# Altium footprint library SMD-IC  0607.PcbLib: 125 footprints (part 6 of 8)
Each footprint in its own frame and in the unit in brackets; x right, y up, seen from the top. Pads: shape width x height; smd on the part's side, far side on the other; paste and mask are expansions set on the pad; w line width, h text height; cw(c..) or ccw(c..) is an arc to the next point about the centre after c.
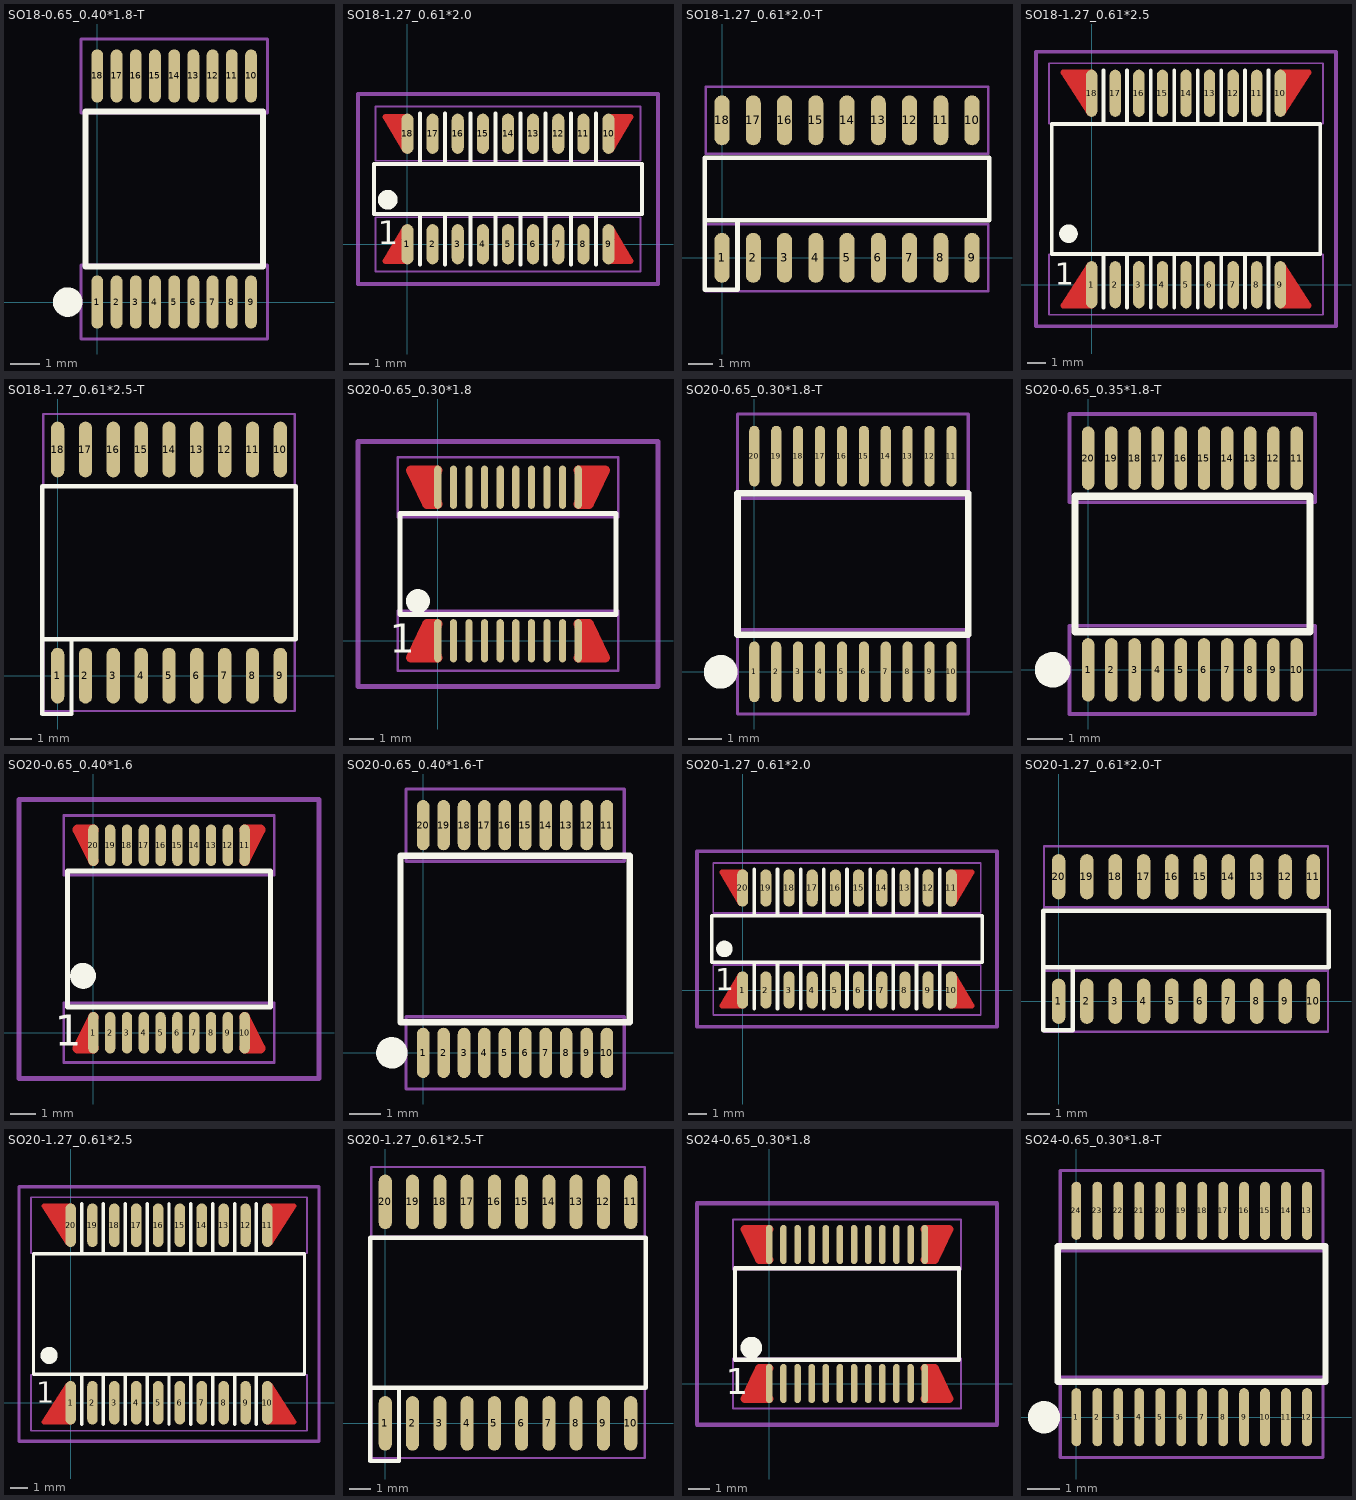
[diagram p5: the footprints below, top view; thin cyan lines are the x and y axes]

## SO18-0.65_0.40*1.8-T [mm]
pads (18):
  oval 0.4x1.8 smd: 1(0,0) 2(0.65,0) 3(1.3,0) 4(1.95,0) 5(2.6,0) 6(3.25,0) 7(3.9,0) 8(4.55,0) 9(5.2,0) 10(5.2,7.65) 11(4.55,7.65) 12(3.9,7.65) 13(3.25,7.65) 14(2.6,7.65) 15(1.95,7.65) 16(1.3,7.65) 17(0.65,7.65) 18(0,7.65)
Top Overlay:
  circle w0.5: c-1,0 r0.25
  lines w0.2: -0.4,1.2 -0.4,6.45 5.6,6.45 5.6,1.2 -0.4,1.2
Mechanical 15:
  lines w0.1: -0.55,-1.25 5.75,-1.25 5.75,1.25 -0.55,1.25 -0.55,-1.25 ; -0.55,6.4 -0.55,8.9 5.75,8.9 5.75,6.4 -0.55,6.4

## SO18-1.27_0.61*2.0 [mil]
pads (18):
  oval 24x80 smd: 1(0,0) 2(50,0) 3(100,0) 4(150,0) 5(200,0) 6(250,0) 7(300,0) 8(350,0) 9(400,0) 10(400,220) 11(350,220) 12(300,220) 13(250,220) 14(200,220) 15(150,220) 16(100,220) 17(50,220) 18(0,220)
Top Layer:
  lines w12: -4.33,32.48 -43.7,-33.66 0,-33.66 ; -4.33,187.52 -43.7,253.66 0,253.66 ; 400,-33.66 443.7,-33.66 404.33,32.48 ; 400,253.66 443.7,253.66 404.33,187.52
  lines w24: -23.62,-23.62 -11.81,-3.94 ; -23.62,243.62 -11.81,223.94 ; 411.81,-3.94 423.62,-23.62 ; 411.81,223.94 423.62,243.62
Top Overlay:
  circle w19.68: c-39.37,88.58 r9.84
  lines w7.87: 25,-40.35 25,60 ; 25,160 25,260.35 ; 75,-40.35 75,60 ; 75,160 75,260.35 ; 125,-40.35 125,60 ; 125,160 125,260.35 ; 175,-40.35 175,60 ; 175,160 175,260.35 ; 225,-40.35 225,60 ; 225,160 225,260.35 ; 275,-40.35 275,60 ; 275,160 275,260.35 ; 325,-40.35 325,60 ; 325,160 325,260.35 ; 375,-40.35 375,60 ; 375,160 375,260.35 ; -66.93,60 466.93,60 466.93,160 -66.93,160 -66.93,60
  text "1" at -59.06,0 h47.24
Top Solder:
  lines w12: -4.33,32.48 -43.7,-33.66 0,-33.66 ; -4.33,187.52 -43.7,253.66 0,253.66 ; 400,-33.66 443.7,-33.66 404.33,32.48 ; 400,253.66 443.7,253.66 404.33,187.52
  lines w24: -23.62,-23.62 -11.81,-3.94 ; -23.62,243.62 -11.81,223.94 ; 411.81,-3.94 423.62,-23.62 ; 411.81,223.94 423.62,243.62
Mechanical 8:
  lines w7.87: -98.43,-78.98 -98.43,298.98 498.43,298.98 498.43,-78.98 -95.63,-78.98
Mechanical 16:
  lines w3.94: -63.48,-53.78 -63.48,53.78 463.48,53.78 463.48,-53.78 -63.48,-53.78 ; -63.48,166.22 463.48,166.22 463.48,273.78 -63.48,273.78 -63.48,166.22

## SO18-1.27_0.61*2.0-T [mil]
pads (18):
  oval 24x80 smd: 1(0,0) 2(50,0) 3(100,0) 4(150,0) 5(200,0) 6(250,0) 7(300,0) 8(350,0) 9(400,0) 10(400,220) 11(350,220) 12(300,220) 13(250,220) 14(200,220) 15(150,220) 16(100,220) 17(50,220) 18(0,220)
Top Overlay:
  lines w7.87: -27.56,60 427.56,60 427.56,160 -27.56,160 -27.56,-51.18 25,-51.18 25,60
Mechanical 15:
  lines w3.94: -25.78,-53.78 -25.78,53.82 425.78,53.78 425.78,-53.78 -25.78,-53.78 ; -25.78,166.22 425.78,166.22 425.78,273.82 -25.78,273.78 -25.78,166.22

## SO18-1.27_0.61*2.5 [mil]
pads (18):
  oval 24x100 smd: 1(0,0) 2(50,0) 3(100,0) 4(150,0) 5(200,0) 6(250,0) 7(300,0) 8(350,0) 9(400,0) 10(400,406) 11(350,406) 12(300,406) 13(250,406) 14(200,406) 15(150,406) 16(100,406) 17(50,406) 18(0,406)
Top Layer:
  lines w12: -4.92,41.34 -60.24,-44.09 0,-44.09 ; -4.92,364.66 -60.24,450.09 0,450.09 ; 400,-44.09 460.24,-44.09 404.92,41.34 ; 400,450.09 460.24,450.09 404.92,364.66
  lines w24: -41.34,-37.4 -9.84,9.84 ; -41.34,443.4 -9.84,396.16 ; -21.65,-35.43 -12.8,-24.61 ; -21.65,441.43 -12.8,430.61 ; 409.84,9.84 441.34,-37.4 ; 409.84,396.16 441.34,443.4 ; 412.8,-24.61 421.65,-35.43 ; 412.8,430.61 421.65,441.43
Top Overlay:
  circle w19.68: c-49.21,108.27 r9.84
  lines w7.87: 25,-48.97 25,65.2 ; 25,340.8 25,454.97 ; 75,-48.97 75,65.2 ; 75,340.8 75,454.97 ; 125,-48.97 125,65.2 ; 125,340.8 125,454.97 ; 175,-48.97 175,65.2 ; 175,340.8 175,454.97 ; 225,-48.97 225,65.2 ; 225,340.8 225,454.97 ; 275,-48.97 275,65.2 ; 275,340.8 275,454.97 ; 325,-48.97 325,65.2 ; 325,340.8 325,454.97 ; 375,-48.97 375,65.2 ; 375,340.8 375,454.97 ; -85,65.2 -85,340.8 485,340.8 485,65.2 -85,65.2
  text "1" at -78.74,0 h47.24
Top Solder:
  lines w12: -4.92,41.34 -60.24,-44.09 0,-44.09 ; -4.92,364.66 -60.24,450.09 0,450.09 ; 400,-44.09 460.24,-44.09 404.92,41.34 ; 400,450.09 460.24,450.09 404.92,364.66
  lines w24: -41.34,-37.4 -9.84,9.84 ; -41.34,443.4 -9.84,396.16 ; -21.65,-35.43 -12.79,-24.61 ; -21.65,441.43 -12.79,430.61 ; 409.84,9.84 441.34,-37.4 ; 409.84,396.16 441.34,443.4 ; 412.8,-24.61 421.65,-35.43 ; 412.8,430.61 421.65,441.43
Mechanical 8:
  lines w7.87: -118.11,-88.34 518.11,-88.34 518.11,494.34 -118.11,494.34 -118.11,-88.34
Mechanical 16:
  lines w3.94: -90.65,-63.78 -90.65,63.78 490.65,63.78 490.65,-63.78 -90.65,-63.78 ; -90.65,342.22 490.65,342.22 490.65,469.78 -90.65,469.78 -90.65,342.22

## SO18-1.27_0.61*2.5-T [mil]
pads (18):
  oval 24x100 smd: 1(0,0) 2(50,0) 3(100,0) 4(150,0) 5(200,0) 6(250,0) 7(300,0) 8(350,0) 9(400,0) 10(400,406) 11(350,406) 12(300,406) 13(250,406) 14(200,406) 15(150,406) 16(100,406) 17(50,406) 18(0,406)
Top Overlay:
  lines w7.87: -27.56,65 427.56,65 427.56,340 -27.56,340 -27.56,-68.9 25,-68.9 25,65
Mechanical 15:
  lines w3.94: -25.78,-63.78 425.78,-63.78 425.78,63.78 -25.78,63.78 -25.78,-63.78 ; -25.78,342.22 -25.78,469.78 425.78,469.78 425.78,342.22 -25.78,342.22

## SO20-0.65_0.30*1.8 [mm]
height 1.1
pads (20):
  oval 0.3x1.8 smd: 1(0,0) 2(0.65,0) 3(1.3,0) 4(1.95,0) 5(2.6,0) 6(3.25,0) 7(3.9,0) 8(4.55,0) 9(5.2,0) 10(5.85,0) 11(5.85,6.4) 12(5.2,6.4) 13(4.55,6.4) 14(3.9,6.4) 15(3.25,6.4) 16(2.6,6.4) 17(1.95,6.4) 18(1.3,6.4) 19(0.65,6.4) 20(0,6.4)
Top Layer:
  lines w0.4: -0.7,6.225 -0.7,7.1 ; -0.325,-0.7 -0.325,0.7 ; -0.325,5.7 -0.325,7.1 ; 0,-0.7 -1.125,-0.7 -0.45,0.7 0,0.7 ; 0,5.7 -0.45,5.7 -1.125,7.1 0,7.1 ; 5.85,-0.7 6.975,-0.7 6.3,0.7 5.85,0.7 ; 5.85,5.7 6.3,5.7 6.975,7.1 5.85,7.1 ; 6.175,-0.7 6.175,0.7 ; 6.175,5.7 6.175,7.1 ; 6.55,-0.7 6.55,0.175 ; 6.55,6.225 6.55,7.1 ; -0.7,-0.7 -0.7,0.175 -0.7,-0.7
Top Overlay:
  circle w0.5: c-0.825,1.65 r0.25
  lines w0.2: -1.575,1.1 -1.575,5.3 7.425,5.3 7.425,1.1 -1.575,1.1
  text "1" at -2,-0.5 h1.2
Top Solder:
  lines w0.4: 0,-0.7 -1.125,-0.7 -0.45,0.7 0,0.7 ; 0,5.7 -0.45,5.7 -1.125,7.1 0,7.1 ; 5.85,-0.7 6.975,-0.7 6.3,0.7 5.85,0.7 ; 5.85,5.7 6.3,5.7 6.975,7.1 5.85,7.1
  lines w0.8: -0.425,-0.4 -0.425,0.3 ; -0.425,6.1 -0.425,6.8 ; 6.275,-0.4 6.275,0.3 ; 6.275,6.1 6.275,6.8
Mechanical 8:
  lines w0.2: -3.325,-1.9 9.175,-1.9 9.175,8.3 -3.325,8.3 -3.325,-1.9
Mechanical 16:
  lines w0.1: -1.675,-1.25 -1.675,1.25 7.525,1.25 7.525,-1.25 -1.675,-1.25 ; -1.675,5.15 7.525,5.15 7.525,7.65 -1.675,7.65 -1.675,5.15

## SO20-0.65_0.30*1.8-T [mm]
height 1.1
pads (20):
  oval 0.3x1.8 smd: 1(0,0) 2(0.65,0) 3(1.3,0) 4(1.95,0) 5(2.6,0) 6(3.25,0) 7(3.9,0) 8(4.55,0) 9(5.2,0) 10(5.85,0) 11(5.85,6.4) 12(5.2,6.4) 13(4.55,6.4) 14(3.9,6.4) 15(3.25,6.4) 16(2.6,6.4) 17(1.95,6.4) 18(1.3,6.4) 19(0.65,6.4) 20(0,6.4)
Top Overlay:
  circle w0.5: c-1,0 r0.25
  lines w0.2: -0.5,1.1 6.35,1.1 6.35,5.3 -0.5,5.3 -0.5,1.1
Mechanical 15:
  lines w0.1: -0.5,-1.25 6.35,-1.25 6.35,1.25 -0.5,1.25 -0.5,-1.25 ; -0.5,5.15 6.35,5.15 6.35,7.65 -0.5,7.65 -0.5,5.15

## SO20-0.65_0.35*1.8-T [mm]
height 1.1
pads (20):
  oval 0.35x1.78 smd: 1(0,0) 2(0.65,0) 3(1.3,0) 4(1.95,0) 5(2.6,0) 6(3.25,0) 7(3.9,0) 8(4.55,0) 9(5.2,0) 10(5.85,0) 11(5.85,5.94) 12(5.2,5.94) 13(4.55,5.94) 14(3.9,5.94) 15(3.25,5.94) 16(2.6,5.94) 17(1.95,5.94) 18(1.3,5.94) 19(0.65,5.94) 20(0,5.94)
Top Overlay:
  circle w0.5: c-1,0 r0.25
  lines w0.2: -0.375,1.07 6.225,1.07 6.225,4.87 -0.375,4.87 -0.375,1.07
Mechanical 15:
  lines w0.1: -0.525,-1.24 -0.525,1.24 6.375,1.24 6.375,-1.24 -0.525,-1.24 ; -0.525,4.7 6.375,4.7 6.375,7.18 -0.525,7.18 -0.525,4.7

## SO20-0.65_0.40*1.6 [mm]
height 1.85
pads (20):
  oval 0.4x1.6 smd: 1(0,0) 2(0.65,0) 3(1.3,0) 4(1.95,0) 5(2.6,0) 6(3.25,0) 7(3.9,0) 8(4.55,0) 9(5.2,0) 10(5.85,0) 11(5.85,7.25) 12(5.2,7.25) 13(4.55,7.25) 14(3.9,7.25) 15(3.25,7.25) 16(2.6,7.25) 17(1.95,7.25) 18(1.3,7.25) 19(0.65,7.25) 20(0,7.25)
Top Layer:
  lines w0.4: -0.3,-0.6 0,0.6 -0.6,-0.6 0,-0.6 ; -0.3,7.85 0,6.65 -0.6,7.85 0,7.85 ; 5.85,-0.6 6.45,-0.6 5.85,0.6 6.15,-0.6 ; 5.85,7.85 6.45,7.85 5.85,6.65 6.15,7.85
Top Overlay:
  circle w0.5: c-0.4,2.2 r0.25
  lines w0.2: -1,1 6.85,1 6.85,6.25 -1,6.25 -1,1
  text "1" at -1.5,-0.5 h1.2
Top Solder:
  lines w0.3: -0.3,-0.6 0,0.6 -0.6,-0.6 0,-0.6 ; -0.3,7.85 0,6.65 -0.6,7.85 0,7.85 ; 5.85,-0.6 6.45,-0.6 5.85,0.6 6.15,-0.6 ; 5.85,7.85 6.45,7.85 5.85,6.65 6.15,7.85
Mechanical 8:
  lines w0.2: -2.875,-1.775 -2.875,9.025 8.725,9.025 8.725,-1.775 -2.875,-1.775
Mechanical 16:
  lines w0.1: -1.15,-1.15 7,-1.15 7,1.15 -1.15,1.15 -1.15,-1.15 ; -1.15,6.1 -1.15,8.4 7,8.4 7,6.1 -1.15,6.1

## SO20-0.65_0.40*1.6-T [mm]
height 1.85
pads (20):
  oval 0.4x1.6 smd: 1(0,0) 2(0.65,0) 3(1.3,0) 4(1.95,0) 5(2.6,0) 6(3.25,0) 7(3.9,0) 8(4.55,0) 9(5.2,0) 10(5.85,0) 11(5.85,7.25) 12(5.2,7.25) 13(4.55,7.25) 14(3.9,7.25) 15(3.25,7.25) 16(2.6,7.25) 17(1.95,7.25) 18(1.3,7.25) 19(0.65,7.25) 20(0,7.25)
Top Overlay:
  circle w0.5: c-1,0 r0.25
  lines w0.2: -0.725,0.975 6.575,0.975 6.575,6.275 -0.725,6.275 -0.725,0.975
Mechanical 15:
  lines w0.1: -0.55,-1.15 6.4,-1.15 6.4,1.15 -0.55,1.15 -0.55,-1.15 ; -0.55,6.1 -0.55,8.4 6.4,8.4 6.4,6.1 -0.55,6.1

## SO20-1.27_0.61*2.0 [mil]
pads (20):
  oval 24x80 smd: 1(0,0) 2(50,0) 3(100,0) 4(150,0) 5(200,0) 6(250,0) 7(300,0) 8(350,0) 9(400,0) 10(450,0) 11(450,220) 12(400,220) 13(350,220) 14(300,220) 15(250,220) 16(200,220) 17(150,220) 18(100,220) 19(50,220) 20(0,220)
Top Layer:
  lines w12: -4.33,32.48 -43.7,-33.66 0,-33.66 ; -4.33,187.52 -43.7,253.66 0,253.66 ; 450,-33.66 493.7,-33.66 454.33,32.48 ; 450,253.66 493.7,253.66 454.33,187.52
  lines w24: -23.62,-23.62 -11.81,-3.94 ; -23.62,243.62 -11.81,223.94 ; 461.81,-3.94 473.62,-23.62 ; 461.81,223.94 473.62,243.62
Top Overlay:
  circle w19.68: c-39.37,88.58 r7.87
  lines w7.87: 25,-40.35 25,60 ; 25,160 25,260.35 ; 75,-40.35 75,60 ; 75,160 75,260.35 ; 125,-40.35 125,60 ; 125,160 125,260.35 ; 175,-40.35 175,60 ; 175,160 175,260.35 ; 225,-40.35 225,60 ; 225,160 225,260.35 ; 275,-40.35 275,60 ; 275,160 275,260.35 ; 325,-40.35 325,60 ; 325,160 325,260.35 ; 375,-40.35 375,60 ; 375,160 375,260.35 ; 425,-40.35 425,60 ; 425,160 425,260.35 ; -66.93,60 -66.93,160 516.93,160 516.93,60 -66.93,60
  text "1" at -59.06,0 h47.24
Top Solder:
  lines w12: -4.33,32.48 -43.7,-33.66 0,-33.66 ; -4.33,187.52 -43.7,253.66 0,253.66 ; 450,-33.66 493.7,-33.66 454.33,32.48 ; 450,253.66 493.7,253.66 454.33,187.52
  lines w24: -23.62,-23.62 -11.81,-3.94 ; -23.62,243.62 -11.81,223.94 ; 461.81,-3.94 473.62,-23.62 ; 461.81,223.94 473.62,243.62
Mechanical 8:
  lines w7.87: -98.43,-78.98 -98.43,298.98 548.43,298.98 548.43,-78.98 -98.43,-78.98
Mechanical 16:
  lines w3.94: -63.48,-53.78 513.48,-53.78 513.48,53.78 -63.48,53.78 -63.48,-53.78 ; -63.48,166.22 -63.48,273.78 513.48,273.78 513.48,166.22 -63.48,166.22

## SO20-1.27_0.61*2.0-T [mil]
pads (20):
  oval 24x80 smd: 1(0,0) 2(50,0) 3(100,0) 4(150,0) 5(200,0) 6(250,0) 7(300,0) 8(350,0) 9(400,0) 10(450,0) 11(450,220) 12(400,220) 13(350,220) 14(300,220) 15(250,220) 16(200,220) 17(150,220) 18(100,220) 19(50,220) 20(0,220)
Top Overlay:
  lines w7.87: -27.56,60 477.56,60 477.56,160 -27.56,160 -27.56,-51.18 25,-51.18 25,60
Mechanical 15:
  lines w3.94: -25.78,-53.78 475.78,-53.78 475.78,53.82 -25.78,53.78 -25.78,-53.78 ; -25.78,166.22 -25.78,273.82 475.78,273.78 475.78,166.22 -25.78,166.22

## SO20-1.27_0.61*2.5 [mil]
pads (20):
  oval 24x100 smd: 1(0,0) 2(50,0) 3(100,0) 4(150,0) 5(200,0) 6(250,0) 7(300,0) 8(350,0) 9(400,0) 10(450,0) 11(450,406) 12(400,406) 13(350,406) 14(300,406) 15(250,406) 16(200,406) 17(150,406) 18(100,406) 19(50,406) 20(0,406)
Top Layer:
  lines w12: -4.92,41.34 -60.24,-44.09 0,-44.09 ; -4.92,364.66 -60.24,450.09 0,450.09 ; 450,-44.09 510.24,-44.09 454.92,41.34 ; 450,450.09 510.24,450.09 454.92,364.66
  lines w24: -41.34,-37.4 -9.84,9.84 ; -41.34,443.4 -9.84,396.16 ; -21.65,-35.43 -12.8,-24.61 ; -21.65,441.43 -12.8,430.61 ; 459.84,9.84 491.34,-37.4 ; 459.84,396.16 491.34,443.4 ; 462.8,-24.61 471.65,-35.43 ; 462.8,430.61 471.65,441.43
Top Overlay:
  circle w19.68: c-49.21,108.27 r9.84
  lines w7.87: 25,-48.97 25,65.2 ; 25,340.8 25,454.97 ; 75,-48.97 75,65.2 ; 75,340.8 75,454.97 ; 125,-48.97 125,65.2 ; 125,340.8 125,454.97 ; 175,-48.97 175,65.2 ; 175,340.8 175,454.97 ; 225,-48.97 225,65.2 ; 225,340.8 225,454.97 ; 275,-48.97 275,65.2 ; 275,340.8 275,454.97 ; 325,-48.97 325,65.2 ; 325,340.8 325,454.97 ; 375,-48.97 375,65.2 ; 375,340.8 375,454.97 ; 425,-48.97 425,65.2 ; 425,340.8 425,454.97 ; -85,65.2 535,65.2 535,340.8 -85,340.8 -85,65.2
  text "1" at -78.74,0 h47.24
Top Solder:
  lines w12: -4.92,41.34 -60.24,-44.09 0,-44.09 ; -4.92,364.66 -60.24,450.09 0,450.09 ; 450,-44.09 510.24,-44.09 454.92,41.34 ; 450,450.09 510.24,450.09 454.92,364.66
  lines w24: -41.34,-37.4 -9.84,9.84 ; -41.34,443.4 -9.84,396.16 ; -21.65,-35.43 -12.79,-24.61 ; -21.65,441.43 -12.79,430.61 ; 459.84,9.84 491.34,-37.4 ; 459.84,396.16 491.34,443.4 ; 462.8,-24.61 471.65,-35.43 ; 462.8,430.61 471.65,441.43
Mechanical 8:
  lines w7.87: 566.18,-88.34 -118.11,-88.34 -118.11,494.34 566.18,494.34 ; 568.11,-88.34 568.11,494.34
Mechanical 16:
  lines w3.94: -90.65,-63.78 -90.65,63.78 540.65,63.78 540.65,-63.78 -90.65,-63.78 ; -90.65,342.22 540.65,342.22 540.65,469.78 -90.65,469.78 -90.65,342.22

## SO20-1.27_0.61*2.5-T [mil]
pads (20):
  oval 24x100 smd: 1(0,0) 2(50,0) 3(100,0) 4(150,0) 5(200,0) 6(250,0) 7(300,0) 8(350,0) 9(400,0) 10(450,0) 11(450,406) 12(400,406) 13(350,406) 14(300,406) 15(250,406) 16(200,406) 17(150,406) 18(100,406) 19(50,406) 20(0,406)
Top Overlay:
  lines w7.87: -27.56,65 477.56,65 477.56,340 -27.56,340 -27.56,-68.9 25,-68.9 25,65
Mechanical 15:
  lines w3.94: -25.78,-63.78 475.78,-63.78 475.78,63.78 -25.78,63.78 -25.78,-63.78 ; -25.78,342.22 -25.78,469.78 475.78,469.78 475.78,342.22 -25.78,342.22

## SO24-0.65_0.30*1.8 [mm]
pads (25):
  oval 0.3x1.8 smd: 1(0,0) 1(0,0) 2(0.65,0) 3(1.3,0) 4(1.95,0) 5(2.6,0) 6(3.25,0) 7(3.9,0) 8(4.55,0) 9(5.2,0) 10(5.85,0) 11(6.5,0) 12(7.15,0) 13(7.15,6.4) 14(6.5,6.4) 15(5.85,6.4) 16(5.2,6.4) 17(4.55,6.4) 18(3.9,6.4) 19(3.25,6.4) 20(2.6,6.4) 21(1.95,6.4) 22(1.3,6.4) 23(0.65,6.4) 24(0,6.4)
Top Layer:
  lines w0.4: -0.7,6.225 -0.7,7.1 ; -0.325,-0.7 -0.325,0.7 ; -0.325,5.7 -0.325,7.1 ; 0,-0.7 -1.125,-0.7 -0.45,0.7 0,0.7 ; 0,5.7 -0.45,5.7 -1.125,7.1 0,7.1 ; 7.15,-0.7 8.275,-0.7 7.6,0.7 7.15,0.7 ; 7.15,5.7 7.6,5.7 8.275,7.1 7.15,7.1 ; 7.475,-0.7 7.475,0.7 ; 7.475,5.7 7.475,7.1 ; 7.85,6.225 7.85,7.1 ; -0.7,-0.7 -0.7,0.175 -0.7,-0.7 ; 7.85,-0.7 7.85,0.175 7.85,-0.7
Top Overlay:
  circle w0.5: c-0.825,1.65 r0.25
  lines w0.2: -1.575,1.1 8.725,1.1 8.725,5.3 -1.575,5.3 -1.575,1.1
  text "1" at -2,-0.5 h1.2
Top Solder:
  lines w0.4: 0,-0.7 -1.125,-0.7 -0.45,0.7 0,0.7 ; 0,5.7 -0.45,5.7 -1.125,7.1 0,7.1 ; 7.15,-0.7 8.275,-0.7 7.6,0.7 7.15,0.7 ; 7.15,5.7 7.6,5.7 8.275,7.1 7.15,7.1
  lines w0.8: -0.425,-0.4 -0.425,0.3 ; -0.425,6.1 -0.425,6.8 ; 7.575,-0.4 7.575,0.3 ; 7.575,6.1 7.575,6.8
Mechanical 8:
  lines w0.2: -3.325,-1.9 10.475,-1.9 10.475,8.3 -3.325,8.3 -3.325,-1.9
Mechanical 16:
  lines w0.1: -1.675,-1.15 -1.675,1.15 8.825,1.15 8.825,-1.15 -1.675,-1.15 ; -1.675,5.25 8.825,5.25 8.825,7.55 -1.675,7.55 -1.675,5.25

## SO24-0.65_0.30*1.8-T [mm]
pads (24):
  oval 0.3x1.8 smd: 1(0,0) 2(0.65,0) 3(1.3,0) 4(1.95,0) 5(2.6,0) 6(3.25,0) 7(3.9,0) 8(4.55,0) 9(5.2,0) 10(5.85,0) 11(6.5,0) 12(7.15,0) 13(7.15,6.4) 14(6.5,6.4) 15(5.85,6.4) 16(5.2,6.4) 17(4.55,6.4) 18(3.9,6.4) 19(3.25,6.4) 20(2.6,6.4) 21(1.95,6.4) 22(1.3,6.4) 23(0.65,6.4) 24(0,6.4)
Top Overlay:
  circle w0.5: c-1,0 r0.25
  lines w0.2: -0.575,1.1 -0.575,5.3 7.725,5.3 7.725,1.1 -0.575,1.1
Mechanical 15:
  lines w0.1: -0.5,-1.25 7.65,-1.25 7.65,1.25 -0.5,1.25 -0.5,-1.25 ; -0.5,5.15 -0.5,7.65 7.65,7.65 7.65,5.15 -0.5,5.15